# Altium schematic symbol library SCH - Interface - ATA6561.SchLib: 1 symbol
Pins are listed as number, name and electrical type; pins without a type are passive.

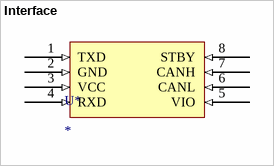
[diagram p0: symbol Interface]

## Interface
designator U*
pins: 1 TXD (in), 2 GND (in), 3 VCC (in), 4 RXD (in), 5 VIO (in), 6 CANL (in), 7 CANH (in), 8 STBY (in)